# EAGLE library part USB_FT232RL (library isysbus_ics)
USB-USART adapter: FT232RL Order numbers (SSOP28): - Reichelt: FT 232 RL - CSD-Electronics: N/A
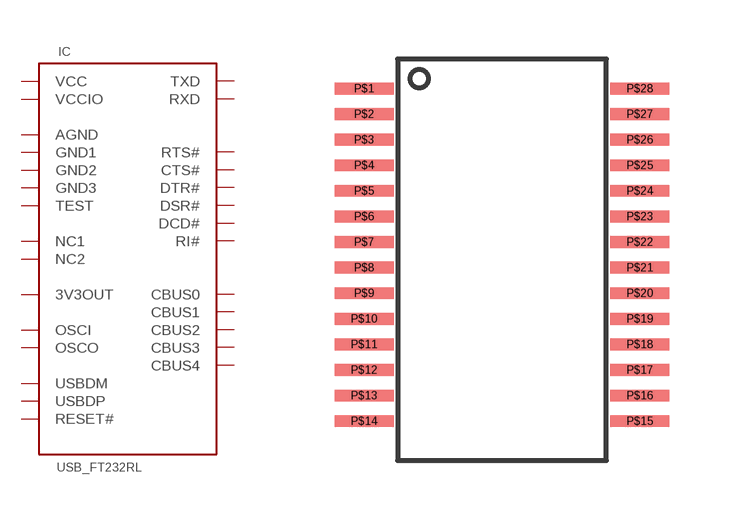
[diagram p11: symbol with the pads of SSOP-28; footprint SSOP-28]

Designator prefix IC

## USB_FT232RL  [SSOP-28]
P$1  TXD  out
P$2  DTR#
P$3  RTS#
P$4  VCCIO  pwr
P$5  RXD  in
P$6  RI#
P$7  GND1  pwr
P$8  NC1  nc
P$9  DSR#
P$10  DCD#
P$11  CTS#
P$12  CBUS4
P$13  CBUS2
P$14  CBUS3
P$15  USBDP
P$16  USBDM
P$17  3V3OUT  out
P$18  GND2  pwr
P$19  RESET#
P$20  VCC  pwr
P$21  GND3  pwr
P$22  CBUS1
P$23  CBUS0
P$24  NC2  nc
P$25  AGND  pwr
P$26  TEST  pwr
P$27  OSCI  oc
P$28  OSCO  oc

## Footprint SSOP-28 (pad centres in mm)
smd 1.5 x 0.3: P$1 -3.5,4.35; P$2 -3.5,3.7; P$3 -3.5,3.05; P$4 -3.5,2.4; P$5 -3.5,1.75; P$6 -3.5,1.1; P$7 -3.5,0.45; P$8 -3.5,-0.2; P$9 -3.5,-0.85; P$10 -3.5,-1.5; P$11 -3.5,-2.15; P$12 -3.5,-2.8; P$13 -3.5,-3.45; P$14 -3.5,-4.1; P$15 3.5,-4.1; P$16 3.5,-3.45; P$17 3.5,-2.8; P$18 3.5,-2.15; P$19 3.5,-1.5; P$20 3.5,-0.85; P$21 3.5,-0.2; P$22 3.5,0.45; P$23 3.5,1.1; P$24 3.5,1.75; P$25 3.5,2.4; P$26 3.5,3.05; P$27 3.5,3.7; P$28 3.5,4.35